# EAGLE library part P8X32A-DIP (library propeller)
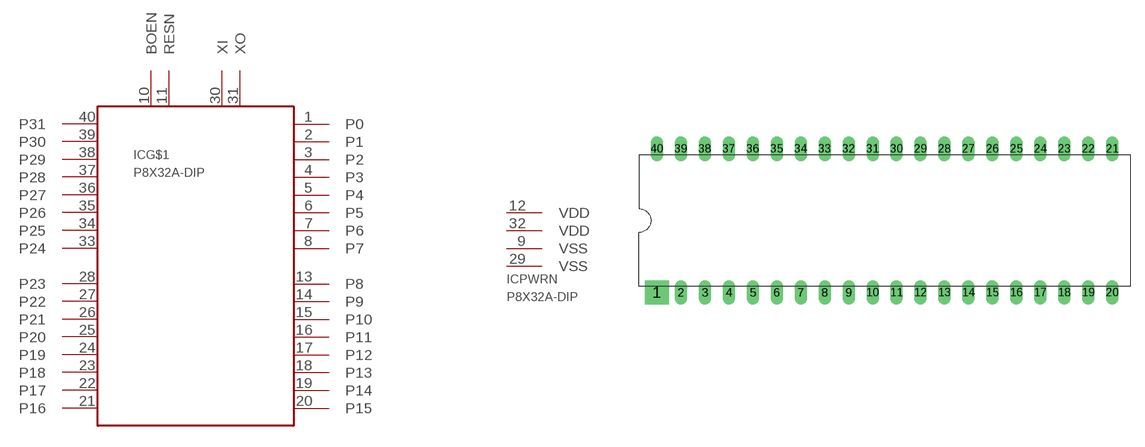
[diagram p1: symbol with the pads of DIL-40; footprint DIL-40]

Designator prefix IC; gates G$1=P8X32A PWRN=VDD-VSS2

## P8X32A-DIP  [DIL-40]
1  G$1:P0
2  G$1:P1
3  G$1:P2
4  G$1:P3
5  G$1:P4
6  G$1:P5
7  G$1:P6
8  G$1:P7
9  PWRN:VSS  pwr
10  G$1:BOEN
11  G$1:RESN
12  PWRN:VDD  pwr
13  G$1:P8
14  G$1:P9
15  G$1:P10
16  G$1:P11
17  G$1:P12
18  G$1:P13
19  G$1:P14
20  G$1:P15
21  G$1:P16
22  G$1:P17
23  G$1:P18
24  G$1:P19
25  G$1:P20
26  G$1:P21
27  G$1:P22
28  G$1:P23
29  PWRN:VSS  pwr
30  G$1:XI
31  G$1:XO
32  PWRN:VDD  pwr
33  G$1:P24
34  G$1:P25
35  G$1:P26
36  G$1:P27
37  G$1:P28
38  G$1:P29
39  G$1:P30
40  G$1:P31

## Footprint DIL-40 (pad centres in mm)
drill 0.8 pad 2.54 square: 1 -16.51,-7.62
drill 0.8 long: 2 -13.97,-7.62; 3 -11.43,-7.62; 4 -8.89,-7.62; 5 -6.35,-7.62; 6 -3.81,-7.62; 7 -1.27,-7.62; 8 1.27,-7.62; 9 3.81,-7.62; 10 6.35,-7.62; 11 8.89,-7.62; 12 11.43,-7.62; 13 13.97,-7.62; 14 16.51,-7.62; 15 19.05,-7.62; 16 21.59,-7.62; 17 24.13,-7.62; 18 26.67,-7.62; 19 29.21,-7.62; 20 31.75,-7.62; 21 31.75,7.62; 22 29.21,7.62; 23 26.67,7.62; 24 24.13,7.62; 25 21.59,7.62; 26 19.05,7.62; 27 16.51,7.62; 28 13.97,7.62; 29 11.43,7.62; 30 8.89,7.62; 31 6.35,7.62; 32 3.81,7.62; 33 1.27,7.62; 34 -1.27,7.62; 35 -3.81,7.62; 36 -6.35,7.62; 37 -8.89,7.62; 38 -11.43,7.62; 39 -13.97,7.62; 40 -16.51,7.62